# Altium schematic symbol library ESP-12S Module.SchLib: 1 symbol
Pins are listed as number, name and electrical type; pins without a type are passive.

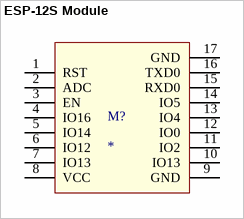
[diagram p0: symbol ESP-12S Module]

## ESP-12S Module
designator M?
ESP-12S Module
footprint ESP-12S Module
pins: 1 RST, 2 ADC, 3 EN, 4 IO16, 5 IO14, 6 IO12, 7 IO13, 8 VCC, 9 GND, 10 IO13, 11 IO2, 12 IO0, 13 IO4, 14 IO5, 15 RXD0, 16 TXD0, 17 GND